# Altium schematic symbol library components.SchLib: 7 symbols
Pins are listed as number, name and electrical type; pins without a type are passive.

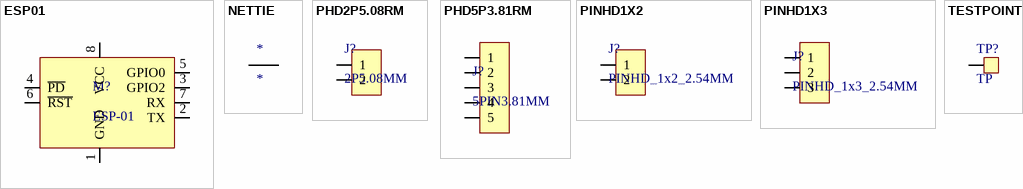
[diagram p0: symbols ESP01 to TESTPOINT]

## ESP01
designator M?, comment ESP-01
ESP-01 ESP8266 Wifi Module
pins: 1 GND, 2 TX, 3 GPIO2, 4 ~{PD}, 5 GPIO0, 6 ~{RST}, 7 RX, 8 VCC

## NETTIE
designator *
pins: 1, 2

## PHD2P5.08RM
designator J?, comment 2P5.08MM
Pluggable Header 2 Pin RM 5.08mm ~15A
pins: 1, 2

## PHD5P3.81RM
designator J?, comment 5PIN3.81MM
Pluggable Header 5 Pin RM 3.81mm ~8A
pins: 1, 2, 3, 4, 5

## PINHD1X2
designator J?, comment PINHD_1x2_2.54MM
Pin Header 1 row 2 pin RM 2.54mm
pins: 1, 2

## PINHD1X3
designator J?, comment PINHD_1x3_2.54MM
Pin Header 1 row 3 pin RM 2.54mm
pins: 1, 2, 3

## TESTPOINT
designator TP?, comment TP
Testpoint
footprint TESTPOINT_2mm (Testpoint SMD 2mm dia)
pins: 1